# EAGLE library part BQ24091DGQT (library SW_BatteryChargers)
Charger IC Lithium Ion/Polymer 10-HVSSOP
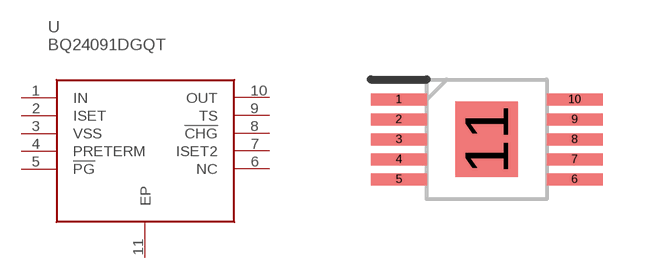
[diagram p0: symbol with the pads of SOP50P490X110-11N; footprint SOP50P490X110-11N]

Designator prefix U

## BQ24091DGQT (CATEGORY: Power; DESCRIPTION: Texas Instruments BQ24091DGQ, Battery Charge Controller, 1000mA, 10-Pin MSOP; MFGS: Texas Instruments,Texas Instruments; MPNS: BQ24091DGQT,BQ24091DGQR; PACKAGE: 10-HVSSOP; PART_NUMBER: BQ24091DGQ; SW_PART_NUMBER: SW0000839)  [SOP50P490X110-11N]
1  IN
2  ISET
3  VSS
4  PRETERM
5  !PG
6  NC  nc
7  ISET2
8  !CHG
9  TS
10  OUT
11  EP

## Footprint SOP50P490X110-11N (pad centres in mm)
DGQ (S-PDSO-G10)
smd 1.4 x 0.3: 1 -2.2,1; 2 -2.2,0.5; 3 -2.2,0; 4 -2.2,-0.5; 5 -2.2,-1; 6 2.2,-1; 7 2.2,-0.5; 8 2.2,0; 9 2.2,0.5; 10 2.2,1
smd 1.57 x 1.88: 11 0,0